# Altium schematic symbol library 53048-0410.SchLib: 1 symbol
Pins are listed as number, name and electrical type; pins without a type are passive.

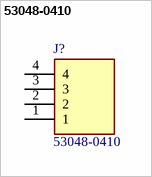
[diagram p0: symbol 53048-0410]

## 53048-0410
designator J?
Headers & Wire Housings RIGHT ANGLE HDR 4P; Manufacturer_Name: Molex; Geometry.Height: 3.7mm; Mouser Part Number: 538-53048-0410; Mouser Price/Stock: https://www.mouser.co.uk/ProductDetail/Molex/53048-0410?qs=359VwiUTsp2msj5Tobchuw%3D%3D; Manufacturer_Part_Number: 53048-0410; Datasheet Link: https://www.molex.com/pdm_docs/sd/530480410_sd.pdf
footprint 530480410
pins: 1, 2, 3, 4